# Altium footprint library PCB - LEADLESS - QFN - TI VQFN-20 RGW0020A.PCBLIB: 1 footprints
Each footprint in its own frame and in the unit in brackets; x right, y up, seen from the top. Pads: shape width x height; smd on the part's side, far side on the other; paste and mask are expansions set on the pad; w line width, h text height; cw(c..) or ccw(c..) is an arc to the next point about the centre after c.
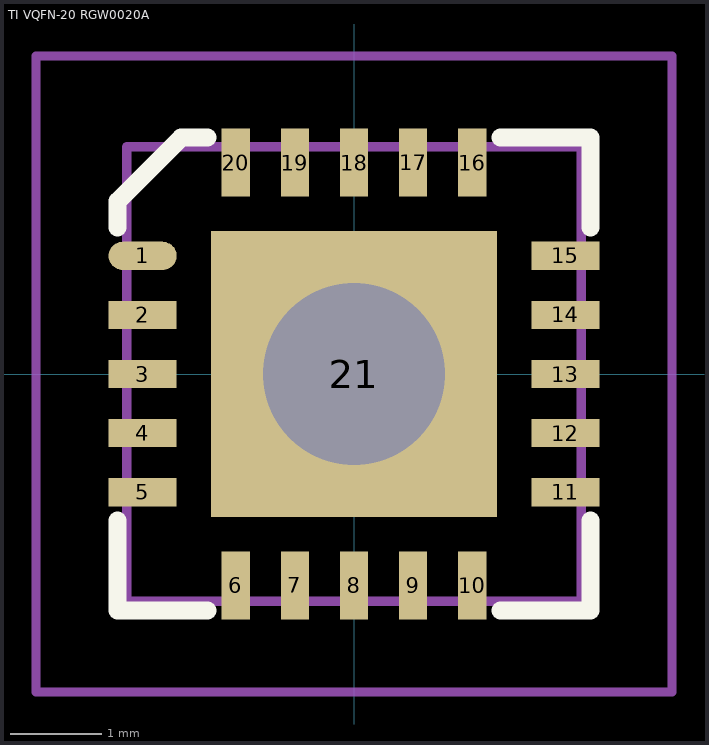
[diagram p0: the footprint, top view; thin cyan lines are the x and y axes]

## TI VQFN-20 RGW0020A [mm] "Plastic quard flatpack. No Lead. Powerpad."
height 1
pads (21):
  oval 0.75x0.31 smd: 1(-2.325,1.3)
  rect 0.75x0.31 smd: 2(-2.325,0.65) 3(-2.325,0) 4(-2.325,-0.65) 5(-2.325,-1.3) 11(2.325,-1.3) 12(2.325,-0.65) 13(2.325,0) 14(2.325,0.65) 15(2.325,1.3)
  rect 0.31x0.75 smd: 6(-1.3,-2.325) 7(-0.65,-2.325) 8(0,-2.325) 9(0.65,-2.325) 10(1.3,-2.325) 16(1.3,2.325) 17(0.65,2.325) 18(0,2.325) 19(-0.65,2.325) 20(-1.3,2.325)
  rect 3.15x3.15 / inner round 1.5 / far side rect 2.2x2.2 hole 2: 21(0,0)
Top Overlay:
  lines w0.2: -2.6,-1.61 -2.6,-2.6 -1.61,-2.6 ; -2.6,1.61 -2.6,1.9 -1.9,2.6 -1.61,2.6 ; 1.61,-2.6 2.6,-2.6 2.6,-1.61 ; 1.61,2.6 2.6,2.6 2.6,1.61
Top Assembly:
  lines w0.1: -2.5,-2.5 -2.5,2.5 2.5,2.5 2.5,-2.5 -2.5,-2.5
Top Courtyard:
  lines w0.1: -3.5,-3.5 3.5,-3.5 3.5,3.5 -3.5,3.5 -3.5,-3.5
Top Component Center:
  lines w0.2: -0.5,0 0.5,0 ; 0,-0.5 0,0.5
3D body: height 1, standoff 0.01, extent -2.5,-2.5 2.5,2.5
3D body: height 1.01, standoff 0.05, extent -2,1.4 -1.5,1.9
3D body: height 0.05, standoff 0, extent -1.5,2.01 -1.1,2.51
3D body: height 0.05, standoff 0, extent -0.85,2.01 -0.45,2.51
3D body: height 0.05, standoff 0, extent -0.2,2.01 0.2,2.51
3D body: height 0.05, standoff 0, extent 0.45,2.01 0.85,2.51
3D body: height 0.05, standoff 0, extent 1.1,2.01 1.5,2.51
3D body: height 0.05, standoff 0, extent 2.01,1.1 2.51,1.5
3D body: height 0.05, standoff 0, extent 2.01,0.45 2.51,0.85
3D body: height 0.05, standoff 0, extent 2.01,-0.2 2.51,0.2
3D body: height 0.05, standoff 0, extent 2.01,-0.85 2.51,-0.45
3D body: height 0.05, standoff 0, extent 2.01,-1.5 2.51,-1.1
3D body: height 0.05, standoff 0, extent 1.1,-2.51 1.5,-2.01
3D body: height 0.05, standoff 0, extent 0.45,-2.51 0.85,-2.01
3D body: height 0.05, standoff 0, extent -0.2,-2.51 0.2,-2.01
3D body: height 0.05, standoff 0, extent -0.85,-2.51 -0.45,-2.01
3D body: height 0.05, standoff 0, extent -1.5,-2.51 -1.1,-2.01
3D body: height 0.05, standoff 0, extent -2.51,-1.5 -2.01,-1.1
3D body: height 0.05, standoff 0, extent -2.51,-0.85 -2.01,-0.45
3D body: height 0.05, standoff 0, extent -2.51,-0.2 -2.01,0.2
3D body: height 0.05, standoff 0, extent -2.51,0.45 -2.01,0.85
3D body: height 0.05, standoff 0, extent -2.51,1.1 -2.01,1.5